# EAGLE library part GATEDRIVER_IND (library 2018)
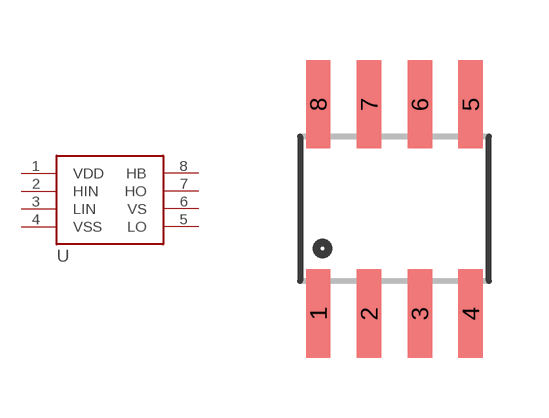
[diagram p12: symbol with the pads of SOIC8; footprint SOIC8]

Designator prefix -

## GATEDRIVER_IND_ISL6700  [SOIC8]
1  VDD
2  HIN
3  LIN
4  VSS
5  LO
6  VS
7  HO
8  HB

## Footprint SOIC8 (pad centres in mm)
smd 0.61 x 2.21: 1 -1.905,-2.616; 2 -0.635,-2.616; 3 0.635,-2.616; 4 1.905,-2.616; 5 1.905,2.616; 6 0.635,2.616; 7 -0.635,2.616; 8 -1.905,2.616